# EAGLE library part AD7823 (library Digilent)
125-031: AD7823 A/D Converter
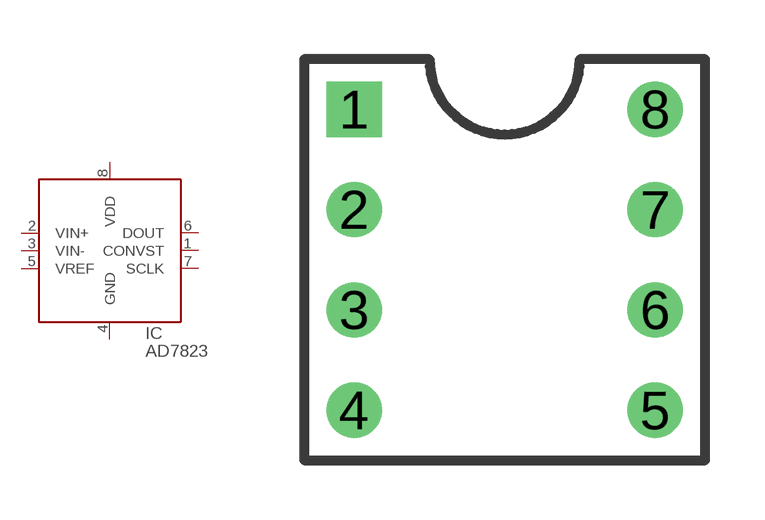
[diagram p41: symbol with the pads of DIP-8C; footprint DIP-8C]

Designator prefix IC

## AD7823N  [DIP-8C]
1  CONVST
2  VIN+
3  VIN-
4  GND  pwr
5  VREF
6  DOUT
7  SCLK
8  VDD  pwr

## Footprint DIP-8C (pad centres in mm)
drill 0.889 square: 1 -3.81,3.81
drill 0.889 round: 2 -3.81,1.27; 3 -3.81,-1.27; 4 -3.81,-3.81; 5 3.81,-3.81; 6 3.81,-1.27; 7 3.81,1.27; 8 3.81,3.81